# Altium schematic symbol library ESDCAN24-2BLY.SchLib: 1 symbol
Pins are listed as number, name and electrical type; pins without a type are passive.

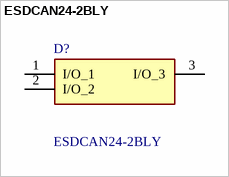
[diagram p0: symbol ESDCAN24-2BLY]

## ESDCAN24-2BLY
designator D?
TVS Diode Array Bi-Directional ESDCAN24-2BLY Dual 40V, 230W, SOT23-3L 3-Pin; Manufacturer_Name: STMicroelectronics; Geometry.Height: 1.25mm; Manufacturer_Part_Number: ESDCAN24-2BLY; Mouser Part Number: 511-ESDCAN24-2BLY; Mouser Price/Stock: https://www.mouser.co.uk/ProductDetail/STMicroelectronics/ESDCAN24-2BLY?qs=gNDSiZmRJS9IbRDJThIoAw%3D%3D; Arrow Part Number: ESDCAN24-2BLY; Arrow Price/Stock: https://www.arrow.com/en/products/esdcan24-2bly/stmicroelectronics?region=nac; Datasheet Link: https://www.st.com/resource/en/datasheet/esdcan24-2bly.pdf
footprint SOT95P255X125-3N
pins: 1 I/O_1, 2 I/O_2, 3 I/O_3